# EAGLE library part TPS79501DCQ (library _openSX70)
Ultralow-Noise, High-PSRR, Fast, RF, 500-mA Low-Dropout Linear Regulators 6-SOT-223 -40 to 125
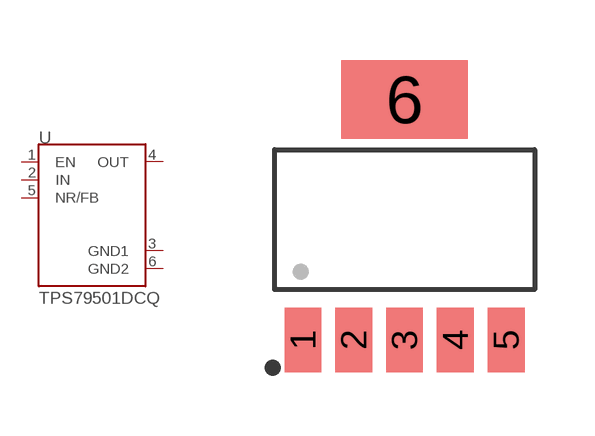
[diagram p29: symbol with the pads of SOT127P706X180-6N; footprint SOT127P706X180-6N]

Designator prefix U

## TPS79501DCQ (DESCRIPTION: Ultralow-Noise, High-PSRR, Fast, RF, 500-mA Low-Dropout Linear Regulators 6-SOT-223 -40 to 125; DIGI-KEY_PART_NUMBER: 296-27102-5-ND; DIGI-KEY_PURCHASE_URL: https://www.digikey.com/product-detail/en/texas-instruments/TPS79501DCQ/296-27102-5-ND/1908443?utm_source=snapeda&utm_medium=aggregator&utm_campaign=symbol; MF: Texas Instruments; MP: TPS79501DCQ; PACKAGE: SOT-223-6 Texas Instruments)  [SOT127P706X180-6N]
1  EN  in
2  IN  in
3  GND1  pwr
4  OUT  out
5  NR/FB  in
6  GND2  pwr

## Footprint SOT127P706X180-6N (pad centres in mm)
smd 0.92 x 1.61: 1 -2.54,-3.005; 2 -1.27,-3.005; 3 0,-3.005; 4 1.27,-3.005; 5 2.54,-3.005
smd 3.16 x 1.97: 6 0,3.005